# Altium schematic symbol library HDR_1X6_BB.SchLib: 1 symbol
Pins are listed as number, name and electrical type; pins without a type are passive.

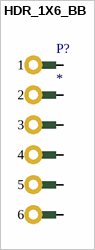
[diagram p0: symbol HDR_1X6_BB]

## HDR_1X6_BB
designator P?
pins: 1, 2, 3, 4, 5, 6